# Altium footprint library PCB - CONNECTOR - PHOENIX 1714955.PCBLIB: 1 footprints
Each footprint in its own frame and in the unit in brackets; x right, y up, seen from the top. Pads: shape width x height; smd on the part's side, far side on the other; paste and mask are expansions set on the pad; w line width, h text height; cw(c..) or ccw(c..) is an arc to the next point about the centre after c.
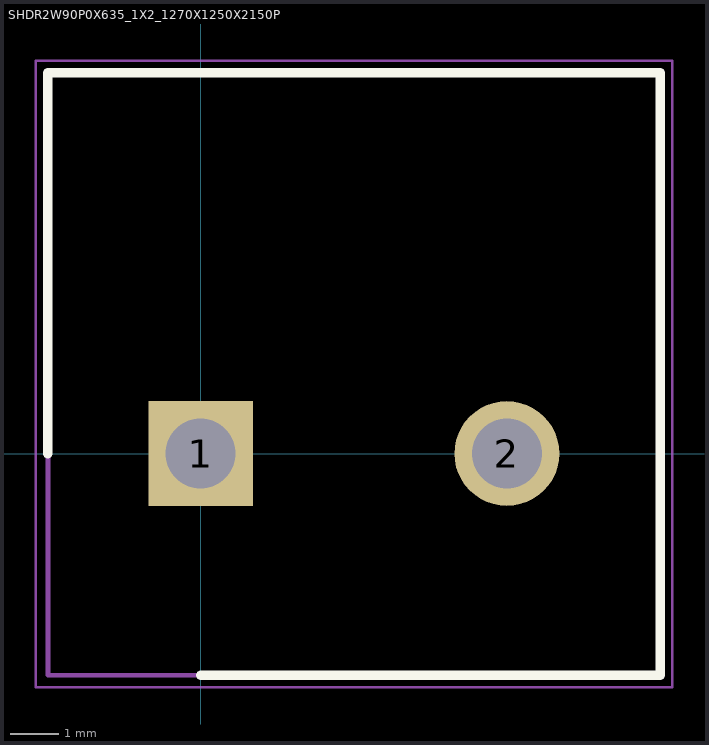
[diagram p0: the footprint, top view; thin cyan lines are the x and y axes]

## SHDR2W90P0X635_1X2_1270X1250X2150P [mm]
pads (2):
  rect 2.175x2.175 hole 1.45: 1(0,0)
  round 2.175 hole 1.45: 2(6.35,0)
Top Overlay:
  lines w0.2: -3.17,0 -3.17,7.9 9.53,7.9 9.53,-4.6 0,-4.6
Mechanical 13:
  lines w0.1: -3.17,-4.6 -3.17,7.9 9.53,7.9 9.53,-4.6 -3.17,-4.6
Mechanical 15:
  lines w0.05: -3.42,-4.85 -3.42,8.15 9.78,8.15 9.78,-4.85 -3.42,-4.85
3D body: height 22, standoff -0.01, extent -3.43,-6.437 9.861,8.176
3D body "1714955.stp": height 21.5, standoff -5.1, extent -3.275,-6.16 9.425,6.34